# Altium footprint library PCB - LEADED - SOIC - LITEON SOIC-16 LTV-247.PcbLib: 1 footprints
Each footprint in its own frame and in the unit in brackets; x right, y up, seen from the top. Pads: shape width x height; smd on the part's side, far side on the other; paste and mask are expansions set on the pad; w line width, h text height; cw(c..) or ccw(c..) is an arc to the next point about the centre after c.
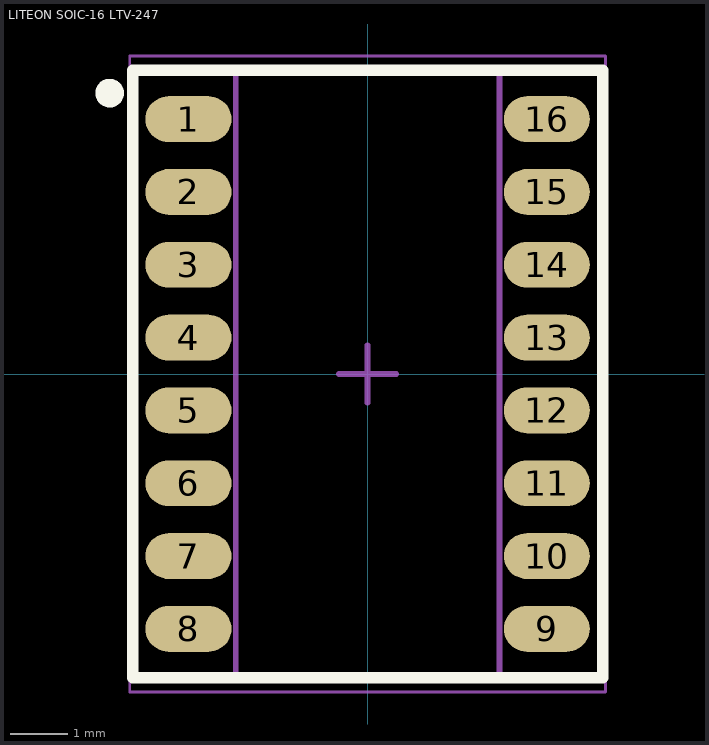
[diagram p0: the footprint, top view; thin cyan lines are the x and y axes]

## LITEON SOIC-16 LTV-247 [mm] "SOIC, 16-Leads, Body 10.28x4.40mm, Pitch 1.27mm, IPC Medium Density"
height 2.02
pads (16):
  oval 1.5x0.8 smd: 1(-3.125,4.445) 2(-3.125,3.175) 3(-3.125,1.905) 4(-3.125,0.635) 5(-3.125,-0.635) 6(-3.125,-1.905) 7(-3.125,-3.175) 8(-3.125,-4.445) 9(3.125,-4.445) 10(3.125,-3.175) 11(3.125,-1.905) 12(3.125,-0.635) 13(3.125,0.635) 14(3.125,1.905) 15(3.125,3.175) 16(3.125,4.445)
Top Overlay:
  circle w0.25: c-4.5,4.9 r0.125
  lines w0.2: -4.1,-5.3 4.1,-5.3 4.1,5.3 -4.1,5.3 -4.1,-5.3
Mechanical 13:
  lines w0.1: -2.3,-5.3 2.3,-5.3 2.3,5.3 -2.3,5.3 -2.3,-5.3
Mechanical 15:
  lines w0.05: -4.15,-5.55 4.15,-5.55 4.15,5.55 -4.15,5.55 -4.15,-5.55
  lines w0.1: -0.5,0 0.5,0 ; 0,-0.5 0,0.5
3D body "Liteon LTV247 SO-16 Opto.step": height 2.32, standoff 0, extent -3.524,-5.14 3.524,5.14